# EAGLE library part DS1306 (library DS1306)
HART Modem Single-Chip, Half-Duplex, 1200bps FSK Modulation and Demodulation Source: http://datasheets.maxim-ic.com/en/ds/DS8500.pdf
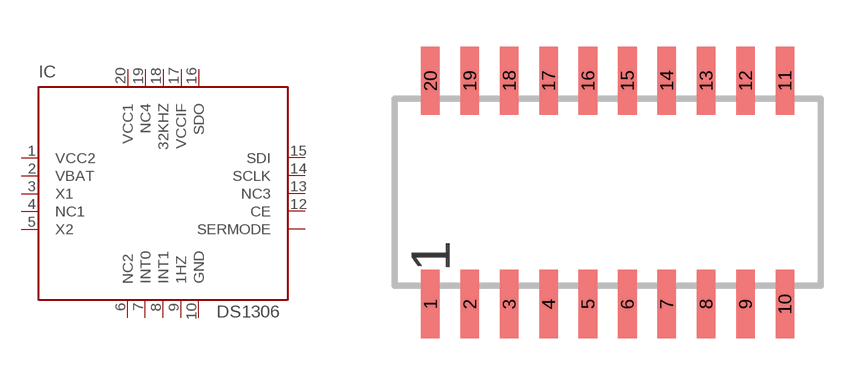
[diagram p0: symbol with the pads of DS1306; footprint DS1306]

Designator prefix IC

## DS1306  [DS1306]
1  VCC2  pwr
2  VBAT  pwr
3  X1  pwr
4  NC1
5  X2  out
6  NC2  in
7  INT0  in
8  INT1  out
9  1HZ  pwr
10  GND  in
11  SERMODE  pas
12  CE  in
13  NC3  out
14  SCLK  out
15  SDI  in
16  SDO  in
17  VCCIF  pwr
18  32KHZ  pwr
19  NC4  pwr
20  VCC1  out

## Footprint DS1306 (pad centres in mm)
SMALL OUTLINE PACKAGE
smd 0.6 x 2.2: 1 -5.715,-3.6; 2 -4.445,-3.6; 3 -3.175,-3.6; 4 -1.905,-3.6; 5 -0.635,-3.6; 6 0.635,-3.6; 7 1.905,-3.6; 8 3.175,-3.6; 9 4.445,-3.6; 10 5.715,-3.6; 11 5.715,3.6; 12 4.445,3.6; 13 3.175,3.6; 14 1.905,3.6; 15 0.635,3.6; 16 -0.635,3.6; 17 -1.905,3.6; 18 -3.175,3.6; 19 -4.445,3.6; 20 -5.715,3.6